# Altium footprint library CONN_532610001-SD_03_MOL.PcbLib: 1 footprints
Each footprint in its own frame and in the unit in brackets; x right, y up, seen from the top. Pads: shape width x height; smd on the part's side, far side on the other; paste and mask are expansions set on the pad; w line width, h text height; cw(c..) or ccw(c..) is an arc to the next point about the centre after c.
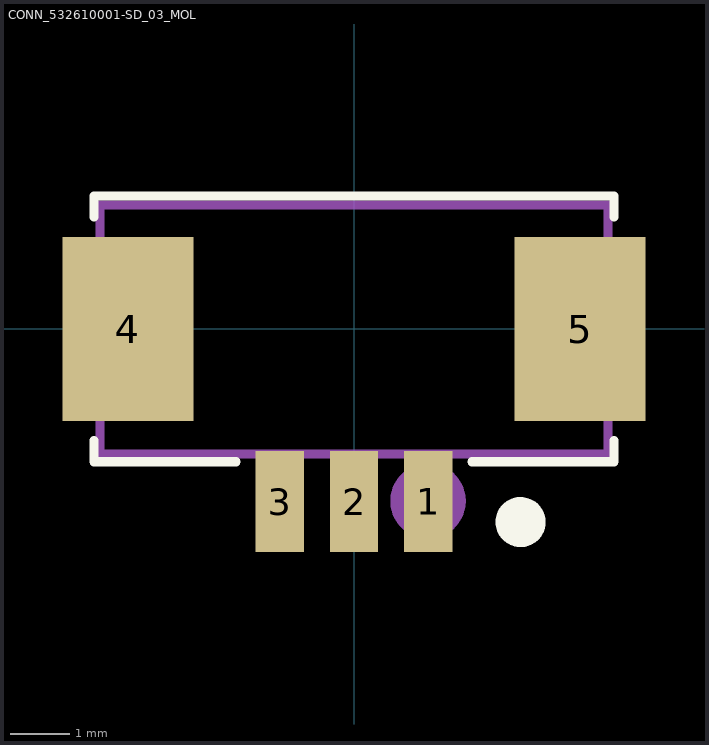
[diagram p0: the footprint, top view; thin cyan lines are the x and y axes]

## CONN_532610001-SD_03_MOL [mil]
height 816.93
pads (5):
  rect 32x67 smd paste+0 mask+4.02: 1(49.21,-114.35) 2(0,-114.35) 3(-49.21,-114.35)
  rect 87x122 smd paste+0 mask+4.02: 4(-149.61,-0.18) 5(149.61,-0.18)
Top Overlay:
  circle w16.54: c110.24,-127.95 r8.27
  lines w6: -172,-74 -172,-88 -78,-88 ; -172,74 -172,88 172,88 172,74 ; 78,-88 172,-88 172,-74
Mechanical 13:
  lines w6: -168,-83 168,-83 168,82 -168,82 -168,-83
  lines w20: 34,-114 ccw(c49,-114) 64,-114 ccw(c49,-114) 34,-114
3D body "533980371.step": height 185.04, standoff 0, extent -175.2,-106.3 175.2,59.06